# Altium footprint library SOT-363.PcbLib: 1 footprints
Each footprint in its own frame and in the unit in brackets; x right, y up, seen from the top. Pads: shape width x height; smd on the part's side, far side on the other; paste and mask are expansions set on the pad; w line width, h text height; cw(c..) or ccw(c..) is an arc to the next point about the centre after c.
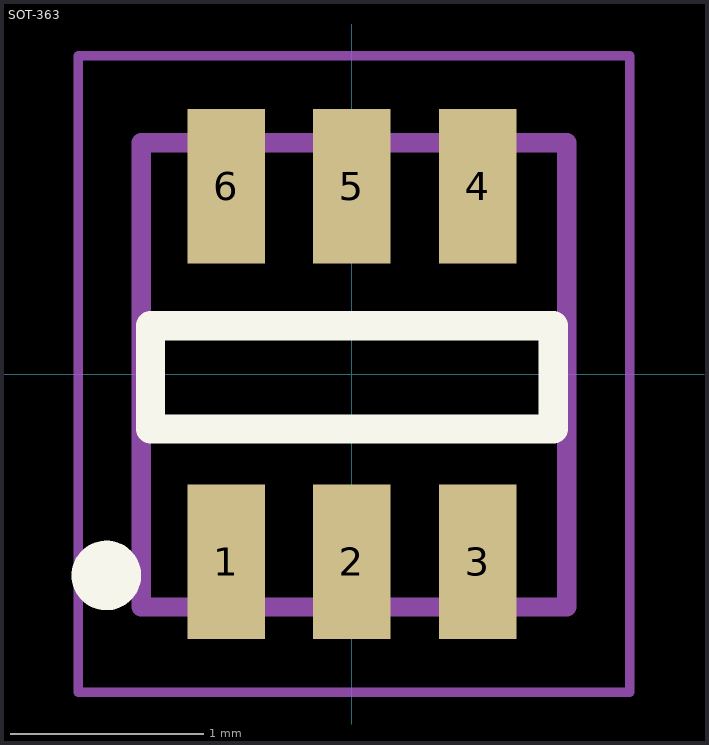
[diagram p0: the footprint, top view; thin cyan lines are the x and y axes]

## SOT-363 [mm]
pads (6):
  rect 0.4x0.8 smd: 1(-0.65,-0.97) 2(0,-0.97) 3(0.65,-0.97) 4(0.65,0.97) 5(0,0.97) 6(-0.65,0.97)
Top Overlay:
  circle w0.18: c-1.27,-1.041 r0.09
  lines w0.152: -1.041,-0.284 1.041,-0.284 1.041,0.249 -1.041,0.249 -1.041,-0.284
Mechanical 13:
  lines w0.1: -1.09,-1.205 -1.09,1.195 1.11,1.195 1.11,-1.205 -1.09,-1.205
Mechanical 15:
  lines w0.05: -1.414,-1.645 -1.414,1.645 1.436,1.645 1.436,-1.645 -1.414,-1.645
3D body: height 1.1, standoff 0, extent -1.09,-1.205 1.11,1.195